# Altium footprint library Terra_Spray.PcbLib: 14 footprints
Each footprint in its own frame and in the unit in brackets; x right, y up, seen from the top. Pads: shape width x height; smd on the part's side, far side on the other; paste and mask are expansions set on the pad; w line width, h text height; cw(c..) or ccw(c..) is an arc to the next point about the centre after c.
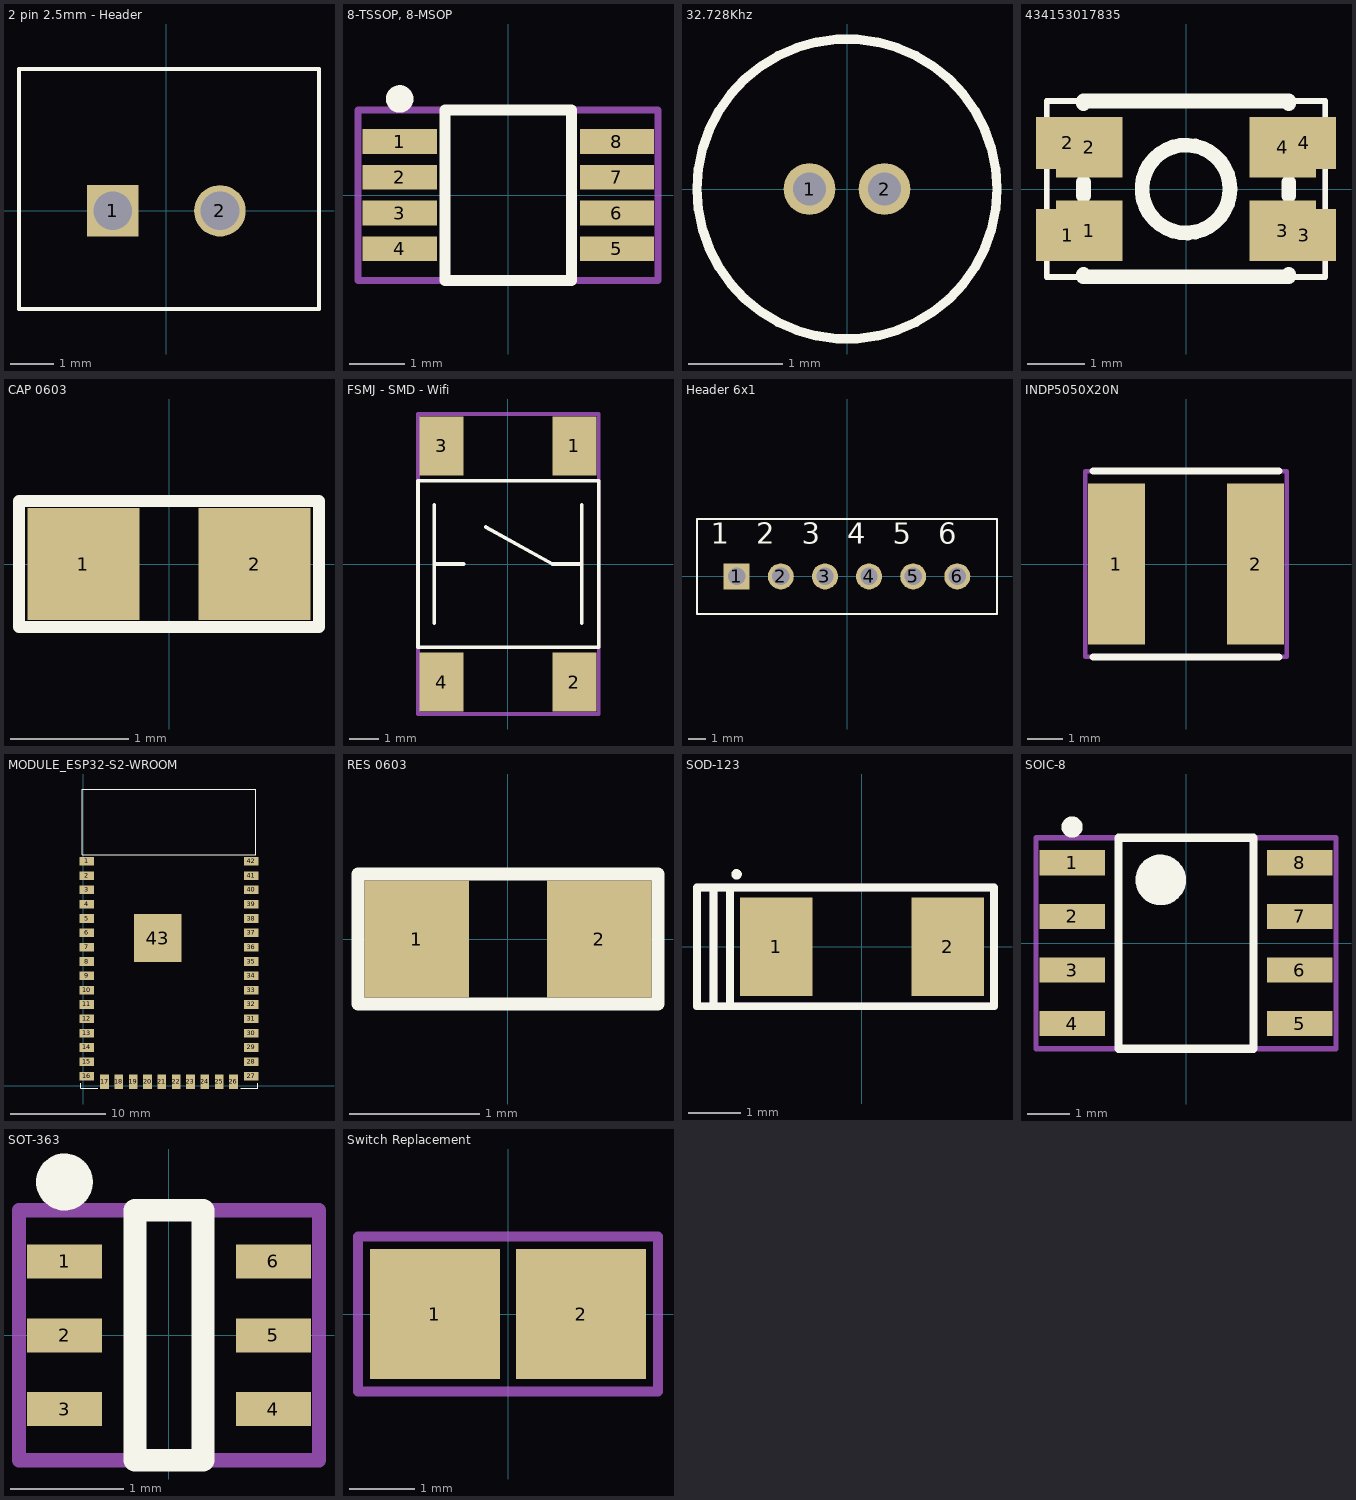
[diagram p0: the footprints below, top view; thin cyan lines are the x and y axes]

## 2 pin 2.5mm - Header [mm]
pads (2):
  rect 1.2x1.2 hole 0.9: 1(-1.25,0)
  round 1.2 hole 0.9: 2(1.25,0)
Top Overlay:
  lines w0.1: -3.429,-2.286 3.556,-2.286 3.556,3.302 -3.429,3.302 -3.429,-2.286
Mechanical 13:
  lines w0.1: -3.429,-2.286 3.556,-2.286 3.556,3.302 -3.429,3.302 -3.429,-2.286
  text ".Designator" at 0,0 h0.4
3D body "User Library-Header1x2.STEP": height 8.49, standoff -2.49, extent -2.54,-1.27 2.54,1.27

## 8-TSSOP, 8-MSOP [mm] "TSOP, 8-Leads, Body 3.00x3.00mm, Pitch 0.65mm, IPC Medium Density"
height 1.1
pads (8):
  rect 1.35x0.45 smd: 1(-1.975,0.975) 2(-1.975,0.325) 3(-1.975,-0.325) 4(-1.975,-0.975) 5(1.975,-0.975) 6(1.975,-0.325) 7(1.975,0.325) 8(1.975,0.975)
Top Overlay:
  circle w0.25: c-1.975,1.75 r0.125
  lines w0.2: -1.15,-1.55 -1.15,1.55 1.15,1.55 1.15,-1.55 -1.15,-1.55
Mechanical 13:
  lines w0.127: -2.733,-1.55 -2.733,1.55 0,1.55 2.722,1.55 2.722,-1.55 -2.733,-1.55
  text ".Designator" at 0,0 h0.4
3D body "8-TSSOP, 8-MSOP.step": height 1.1, standoff 0, extent -2.45,-1.55 2.45,1.55

## 32.728Khz [mm]
pads (2):
  round 0.55 hole 0.35: 1(-0.4,0) 2(0.4,0)
Top Overlay:
  circle w0.1: c0,0 r1.6
3D body: height 8.05, standoff 0, extent -1.463,-1.472 1.475,1.472

## 434153017835 [mm]
pads (8):
  rect 1.1x0.9 smd: 1(-2.05,-0.8) 2(-2.05,0.8) 3(2.05,-0.8) 4(2.05,0.8)
  rect 1.15x1.05 smd: 1(-1.675,-0.725) 2(-1.675,0.725) 3(1.675,-0.725) 4(1.675,0.725)
Top Overlay:
  circle w0.254: c0,0 r0.762
  lines w0.1: -2.413,-1.524 -2.413,1.524 2.413,1.524 2.413,-1.524 -2.413,-1.524
  lines w0.254: -1.778,-1.481 -1.778,-1.524 1.778,-1.524 1.778,-1.481 ; -1.778,-0.119 -1.778,0.119 ; -1.778,1.481 -1.778,1.524 1.778,1.524 1.778,1.481 ; 1.778,-0.119 1.778,0.119
Mechanical 13:
  lines w0.1: -2.413,-1.524 2.413,-1.524 2.413,1.524 -2.413,1.524 -2.413,-1.524
  text ".Designator" at 0,0 h0.4
3D body "User Library-Switch-CK-KMR2.STEP": height 2.1, standoff 0, extent -2.3,-1.5 2.3,1.5

## CAP 0603 [mm]
height 0.4
pads (2):
  rect 0.95x0.95 smd: 1(-0.725,0) 2(0.725,0)
Top Overlay:
  lines w0.1: -1.27,-0.533 -1.27,0.533 0.127,0.533 1.27,0.533 1.27,-0.533 0.127,-0.533 -1.27,-0.533
3D body "CAP-0603.step": height 0.57, standoff 0, extent -0.8,-0.41 0.8,0.41

## FSMJ - SMD - Wifi [mm]
pads (4):
  rect 1.5x2 smd: 1(2.25,4) 2(2.25,-4) 3(-2.25,4) 4(-2.25,-4)
Top Overlay:
  lines w0.127: -2.5,-2 -2.5,0 ; -2.5,2 -2.5,0 ; -1.5,0 -2.5,0 ; -0.75,1.25 1.5,0 2.5,0 ; 2.5,-2 2.5,0 ; 2.5,2 2.5,0 ; -3.048,-2.819 -3.048,2.819 3.073,2.819 3.073,-2.819 -3.048,-2.819
Mechanical 13:
  lines w0.127: -3.048,-5.08 -3.048,5.08 3.073,5.08 3.073,-5.08 -3.048,-5.08
  text ".Designator" at 0,0 h0.4
3D body: height 5.1, standoff 2, extent -1.8,-1.8 1.8,1.8
3D body "User Library-switch.STEP": height 5, standoff 0, extent -3,-4.5 3,4.5

## Header 6x1 [mm]
pads (6):
  rect 1.5x1.5 hole 1: 1(-6.35,0)
  round 1.5 hole 1: 2(-3.81,0) 3(-1.27,0) 4(1.27,0) 5(3.81,0) 6(6.35,0)
Top Overlay:
  lines w0.1: -8.636,-2.159 8.636,-2.159 8.636,3.302 -8.636,3.302 -8.636,-2.159
  text "1   2   3   4   5   6" at -7.844,1.487 h2.1
Mechanical 13:
  lines w0.1: -8.636,-2.159 8.636,-2.159 8.636,3.302 -8.636,3.302 -8.636,-2.159
  text ".Designator" at 0,0 h0.4
3D body "User Library-Header1x2.STEP": height 8.59, standoff -2.39, extent -7.62,-1.27 -2.54,1.27
3D body "User Library-Header1x2.STEP": height 8.59, standoff -2.39, extent -2.54,-1.27 2.54,1.27
3D body "User Library-Header1x2.STEP": height 8.59, standoff -2.39, extent 2.54,-1.27 7.62,1.27

## INDP5050X20N [mm] "Precision Wire Wound Inductor, 2-Leads, Body 5.00x5.00mm, IPC Medium Density"
height 2
pads (2):
  rect 1.6x4.5 smd: 1(-1.95,0) 2(1.95,0)
Top Overlay:
  lines w0.2: -2.6,-2.6 2.6,-2.6 ; -2.6,2.6 2.6,2.6
Mechanical 13:
  lines w0.127: -2.819,-2.6 2.819,-2.6 2.819,2.6 0,2.6 -2.819,2.6 -2.819,-2.6
  text ".Designator" at 0,0 h0.4
3D body "INDP5050X20N.step": height 2.1, standoff 0, extent -2.6,-2.5 2.6,2.5

## MODULE_ESP32-S2-WROOM [mm]
pads (43):
  rect 1.5x0.9 smd: 1(0.4,23.5) 2(0.4,22) 3(0.4,20.5) 4(0.4,19) 5(0.4,17.5) 6(0.4,16) 7(0.4,14.5) 8(0.4,13) 9(0.4,11.5) 10(0.4,10) 11(0.4,8.5) 12(0.4,7) 13(0.4,5.5) 14(0.4,4) 15(0.4,2.5) 16(0.4,1) 27(17.6,1) 28(17.6,2.5) 29(17.6,4) 30(17.6,5.5) 31(17.6,7) 32(17.6,8.5) 33(17.6,10) 34(17.6,11.5) 35(17.6,13) 36(17.6,14.5) 37(17.6,16) 38(17.6,17.5) 39(17.6,19) 40(17.6,20.5) 41(17.6,22) 42(17.6,23.5)
  rect 0.9x1.5 smd: 17(2.25,0.4) 18(3.75,0.4) 19(5.25,0.4) 20(6.75,0.4) 21(8.25,0.4) 22(9.75,0.4) 23(11.25,0.4) 24(12.75,0.4) 25(14.25,0.4) 26(15.75,0.4)
  rect 5x5 smd paste-3: 43(7.81,15.45)
Top Overlay:
  lines w0.125: -0.254,0.254 -0.254,-0.254 1.524,-0.254 ; -0.102,24.155 18.059,24.155 ; 16.51,-0.254 18.288,-0.254 18.288,0.254
  lines w0.127: -0.102,24.155 -0.102,31.064 18.059,31.064 18.059,24.155
Top Paste:
  region: 9.4,13.9 6.2,13.9 6.2,17.1 9.4,17.1
3D body "ESP32-S2-WROVER-I--3DModel-STEP-255839.STEP": height 3.3, standoff 0, extent -0.025,-0.025 17.975,30.975

## RES 0603 [mm]
pads (2):
  rect 0.8x0.9 smd: 1(-0.7,0) 2(0.7,0)
Top Overlay:
  lines w0.1: -1.15,-0.5 1.15,-0.5 1.15,0.5 -1.15,0.5 -1.15,-0.5
3D body "0603_RES.stp": height 0.43, standoff -0.03, extent -0.8,-0.4 0.8,0.4

## SOD-123 [mm] "SODFL, 2-Leads, Body 1.70x3.70mm, IPC Medium Density"
height 1.7
pads (2):
  rect 1.4x1.9 smd: 1(-1.65,0) 2(1.65,0)
Top Overlay:
  circle w0.1: c-2.413,1.397 r0.05
  lines w0.152: -2.857,1.143 -2.857,-1.143 -2.54,-1.143 ; -2.54,-1.143 2.54,-1.143 2.54,1.143 -2.54,1.143 ; -2.54,-1.143 -2.54,1.143 ; -2.54,-1.143 -3.175,-1.143 -3.175,1.143 -2.54,1.143
Mechanical 13:
  lines w0.152: -2.857,1.143 -2.857,-1.143 -2.54,-1.143 ; -2.54,-1.143 -2.54,1.143 ; -2.54,-1.143 2.54,-1.143 2.54,1.143 -2.54,1.143 ; -2.54,-1.143 -3.175,-1.143 -3.175,1.143 -2.54,1.143
  text ".Designator" at 0,0 h0.4
3D body "SOD-123.step": height 1.7, standoff 0, extent -1.85,-0.95 1.85,0.95

## SOIC-8 [mm] "SOIC, 8-Leads, Body 4.91x3.90mm, Pitch 1.27mm, IPC Medium Density"
height 1.75
pads (8):
  rect 1.55x0.6 smd: 1(-2.7,1.905) 2(-2.7,0.635) 3(-2.7,-0.635) 4(-2.7,-1.905) 5(2.7,-1.905) 6(2.7,-0.635) 7(2.7,0.635) 8(2.7,1.905)
Top Overlay:
  circle w0.25: c-2.7,2.755 r0.125
  circle w0.6: c-0.6,1.5 r0.3
  lines w0.2: -1.6,-2.5 -1.6,2.5 1.6,2.5 1.6,-2.5 -1.6,-2.5
Mechanical 13:
  lines w0.127: -3.556,-2.5 3.556,-2.5 3.556,2.5 0,2.5 -3.556,2.5 -3.556,-2.5
  text ".Designator" at 0,0 h0.4
3D body "SOIC-8.step": height 1.75, standoff 0, extent -2.997,-2.5 2.998,2.5

## SOT-363 [mm] "SOT23, 6-Leads, Body 2.00x2.10mm, Pitch 0.65mm, IPC Medium Density"
height 1.1
pads (6):
  rect 0.66x0.3 smd: 1(-0.92,0.65) 2(-0.92,0) 3(-0.92,-0.65) 4(0.92,-0.65) 5(0.92,0) 6(0.92,0.65)
Top Overlay:
  circle w0.25: c-0.92,1.35 r0.125
  lines w0.2: -0.3,-1.1 -0.3,1.1 0.3,1.1 0.3,-1.1 -0.3,-1.1
Mechanical 13:
  lines w0.127: -1.321,-1.1 -1.321,1.1 0,1.1 1.321,1.1 1.321,-1.1 -1.321,-1.1
  text ".Designator" at 0,0 h0.4
3D body "SOT-363.step": height 1.1, standoff 0, extent -1.1,-1.1 1.1,1.1

## Switch Replacement [mm]
pads (2):
  rect 2x2 smd: 1(-1.125,0) 2(1.125,0)
Mechanical 13:
  lines w0.152: -2.311,-1.194 2.311,-1.194 2.311,1.194 -2.311,1.194 -2.311,-1.194
  text ".Designator" at 0,0 h0.4